# Altium footprint library CAP_CAN_TH_3p5mmLS8mmD.PcbLib: 1 footprints
Each footprint in its own frame and in the unit in brackets; x right, y up, seen from the top. Pads: shape width x height; smd on the part's side, far side on the other; paste and mask are expansions set on the pad; w line width, h text height; cw(c..) or ccw(c..) is an arc to the next point about the centre after c.
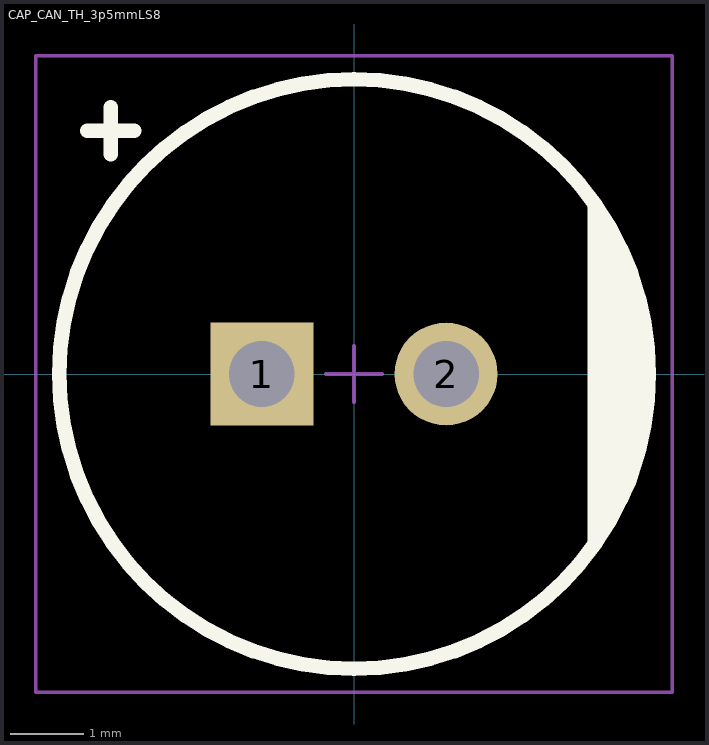
[diagram p0: the footprint, top view; thin cyan lines are the x and y axes]

## CAP_CAN_TH_3p5mmLS8 [mil]
pads (2):
  rect 55x55 hole 35: 1(-49.21,0)
  round 55 hole 35: 2(49.21,0)
Top Overlay:
  circle w7.87: c0,0 r157.48
  region: 125,90 128.53,87.15 141.03,71.92 150.32,54.55 156.03,35.7 157.96,16.1 157.48,16.1 157.96,-21.1 156.03,-40.7 150.32,-59.55 141.03,-76.92 128.53,-92.15 128.19,-91.81 125,-95
  lines w7.87: -142.5,130 -117.5,130 ; -130,117.5 -130,142.5
Mechanical 15:
  lines w1.97: -15,0 15,0 ; 0,-15 0,15 ; -170,-170 170,-170 170,170 -170,170 -170,-170